# Altium footprint library QFP_Rect_65P_Side_M.PcbLib: 6 footprints
Each footprint in its own frame and in the unit in brackets; x right, y up, seen from the top. Pads: shape width x height; smd on the part's side, far side on the other; paste and mask are expansions set on the pad; w line width, h text height; cw(c..) or ccw(c..) is an arc to the next point about the centre after c.
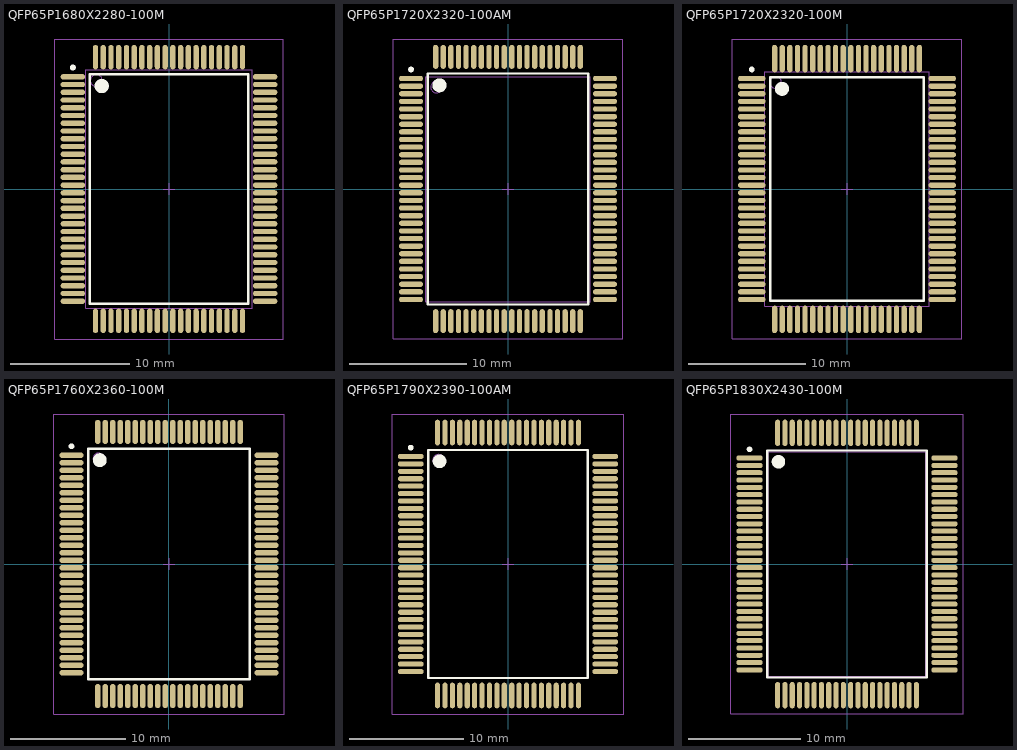
[diagram p0: the footprints below, top view; thin cyan lines are the x and y axes]

## QFP65P1680X2280-100M [mm] "100-Pin Quad Flat Pack Rectangular 0.65 mm Pitch"
height 3.05
pads (100):
  oval 2.05x0.45 smd: 1(-8.075,9.425) 2(-8.075,8.775) 3(-8.075,8.125) 4(-8.075,7.475) 5(-8.075,6.825) 6(-8.075,6.175) 7(-8.075,5.525) 8(-8.075,4.875) 9(-8.075,4.225) 10(-8.075,3.575) 11(-8.075,2.925) 12(-8.075,2.275) 13(-8.075,1.625) 14(-8.075,0.975) 15(-8.075,0.325) 16(-8.075,-0.325) 17(-8.075,-0.975) 18(-8.075,-1.625) 19(-8.075,-2.275) 20(-8.075,-2.925) 21(-8.075,-3.575) 22(-8.075,-4.225) 23(-8.075,-4.875) 24(-8.075,-5.525) 25(-8.075,-6.175) 26(-8.075,-6.825) 27(-8.075,-7.475) 28(-8.075,-8.125) 29(-8.075,-8.775) 30(-8.075,-9.425) 51(8.075,-9.425) 52(8.075,-8.775) 53(8.075,-8.125) 54(8.075,-7.475) 55(8.075,-6.825) 56(8.075,-6.175) 57(8.075,-5.525) 58(8.075,-4.875) 59(8.075,-4.225) 60(8.075,-3.575) 61(8.075,-2.925) 62(8.075,-2.275) 63(8.075,-1.625) 64(8.075,-0.975) 65(8.075,-0.325) 66(8.075,0.325) 67(8.075,0.975) 68(8.075,1.625) 69(8.075,2.275) 70(8.075,2.925) 71(8.075,3.575) 72(8.075,4.225) 73(8.075,4.875) 74(8.075,5.525) 75(8.075,6.175) 76(8.075,6.825) 77(8.075,7.475) 78(8.075,8.125) 79(8.075,8.775) 80(8.075,9.425)
  oval 0.45x2.05 smd: 31(-6.175,-11.075) 32(-5.525,-11.075) 33(-4.875,-11.075) 34(-4.225,-11.075) 35(-3.575,-11.075) 36(-2.925,-11.075) 37(-2.275,-11.075) 38(-1.625,-11.075) 39(-0.975,-11.075) 40(-0.325,-11.075) 41(0.325,-11.075) 42(0.975,-11.075) 43(1.625,-11.075) 44(2.275,-11.075) 45(2.925,-11.075) 46(3.575,-11.075) 47(4.225,-11.075) 48(4.875,-11.075) 49(5.525,-11.075) 50(6.175,-11.075) 81(6.175,11.075) 82(5.525,11.075) 83(4.875,11.075) 84(4.225,11.075) 85(3.575,11.075) 86(2.925,11.075) 87(2.275,11.075) 88(1.625,11.075) 89(0.975,11.075) 90(0.325,11.075) 91(-0.325,11.075) 92(-0.975,11.075) 93(-1.625,11.075) 94(-2.275,11.075) 95(-2.925,11.075) 96(-3.575,11.075) 97(-4.225,11.075) 98(-4.875,11.075) 99(-5.525,11.075) 100(-6.175,11.075)
Top Overlay:
  circle w0.25: c-8.075,10.2 r0.125
  circle w0.6: c-5.65,8.65 r0.3
  lines w0.2: -6.65,-9.65 -6.65,9.65 6.65,9.65 6.65,-9.65 -6.65,-9.65
Mechanical 13:
  circle w0.1: c-6.1,9.1 r0.5
  lines w0.1: -7,-10 -7,10 7,10 7,-10 -7,-10
Mechanical 15:
  lines w0.1: -0.5,0 0.5,0 ; 0,-0.5 0,0.5 ; -9.6,-12.6 -9.6,12.6 9.6,12.6 9.6,-12.6 -9.6,-12.6
3D body: height 3.05, standoff 0, extent -7,-10 7,10

## QFP65P1720X2320-100AM [mm] "QFP, 100-Leads, Body 20x14mm, Pitch 0.65mm, IPC Low Density"
height 3.22
pads (100):
  oval 2.05x0.45 smd: 1(-8.275,9.425) 2(-8.275,8.775) 3(-8.275,8.125) 4(-8.275,7.475) 5(-8.275,6.825) 6(-8.275,6.175) 7(-8.275,5.525) 8(-8.275,4.875) 9(-8.275,4.225) 10(-8.275,3.575) 11(-8.275,2.925) 12(-8.275,2.275) 13(-8.275,1.625) 14(-8.275,0.975) 15(-8.275,0.325) 16(-8.275,-0.325) 17(-8.275,-0.975) 18(-8.275,-1.625) 19(-8.275,-2.275) 20(-8.275,-2.925) 21(-8.275,-3.575) 22(-8.275,-4.225) 23(-8.275,-4.875) 24(-8.275,-5.525) 25(-8.275,-6.175) 26(-8.275,-6.825) 27(-8.275,-7.475) 28(-8.275,-8.125) 29(-8.275,-8.775) 30(-8.275,-9.425) 51(8.275,-9.425) 52(8.275,-8.775) 53(8.275,-8.125) 54(8.275,-7.475) 55(8.275,-6.825) 56(8.275,-6.175) 57(8.275,-5.525) 58(8.275,-4.875) 59(8.275,-4.225) 60(8.275,-3.575) 61(8.275,-2.925) 62(8.275,-2.275) 63(8.275,-1.625) 64(8.275,-0.975) 65(8.275,-0.325) 66(8.275,0.325) 67(8.275,0.975) 68(8.275,1.625) 69(8.275,2.275) 70(8.275,2.925) 71(8.275,3.575) 72(8.275,4.225) 73(8.275,4.875) 74(8.275,5.525) 75(8.275,6.175) 76(8.275,6.825) 77(8.275,7.475) 78(8.275,8.125) 79(8.275,8.775) 80(8.275,9.425)
  oval 0.45x2.05 smd: 31(-6.175,-11.275) 32(-5.525,-11.275) 33(-4.875,-11.275) 34(-4.225,-11.275) 35(-3.575,-11.275) 36(-2.925,-11.275) 37(-2.275,-11.275) 38(-1.625,-11.275) 39(-0.975,-11.275) 40(-0.325,-11.275) 41(0.325,-11.275) 42(0.975,-11.275) 43(1.625,-11.275) 44(2.275,-11.275) 45(2.925,-11.275) 46(3.575,-11.275) 47(4.225,-11.275) 48(4.875,-11.275) 49(5.525,-11.275) 50(6.175,-11.275) 81(6.175,11.275) 82(5.525,11.275) 83(4.875,11.275) 84(4.225,11.275) 85(3.575,11.275) 86(2.925,11.275) 87(2.275,11.275) 88(1.625,11.275) 89(0.975,11.275) 90(0.325,11.275) 91(-0.325,11.275) 92(-0.975,11.275) 93(-1.625,11.275) 94(-2.275,11.275) 95(-2.925,11.275) 96(-3.575,11.275) 97(-4.225,11.275) 98(-4.875,11.275) 99(-5.525,11.275) 100(-6.175,11.275)
Top Overlay:
  circle w0.25: c-8.275,10.2 r0.125
  circle w0.6: c-5.85,8.85 r0.3
  lines w0.2: -6.85,-9.85 -6.85,9.85 6.85,9.85 6.85,-9.85 -6.85,-9.85
Mechanical 13:
  circle w0.1: c-6.1,8.7 r0.5
  lines w0.1: -7,-9.6 -7,9.6 7,9.6 7,-9.6 -7,-9.6
Mechanical 15:
  lines w0.1: -0.5,0 0.5,0 ; 0,-0.5 0,0.5 ; -9.8,-12.8 -9.8,12.8 9.8,12.8 9.8,-12.8 -9.8,-12.8
3D body: height 3.22, standoff 0, extent -7,-9.6 7,9.6

## QFP65P1720X2320-100M [mm] "QFP, 100-Leads, Body 20x14mm, Pitch 0.65mm, IPC Low Density"
height 3.4
pads (100):
  oval 2.35x0.45 smd: 1(-8.125,9.425) 2(-8.125,8.775) 3(-8.125,8.125) 4(-8.125,7.475) 5(-8.125,6.825) 6(-8.125,6.175) 7(-8.125,5.525) 8(-8.125,4.875) 9(-8.125,4.225) 10(-8.125,3.575) 11(-8.125,2.925) 12(-8.125,2.275) 13(-8.125,1.625) 14(-8.125,0.975) 15(-8.125,0.325) 16(-8.125,-0.325) 17(-8.125,-0.975) 18(-8.125,-1.625) 19(-8.125,-2.275) 20(-8.125,-2.925) 21(-8.125,-3.575) 22(-8.125,-4.225) 23(-8.125,-4.875) 24(-8.125,-5.525) 25(-8.125,-6.175) 26(-8.125,-6.825) 27(-8.125,-7.475) 28(-8.125,-8.125) 29(-8.125,-8.775) 30(-8.125,-9.425) 51(8.125,-9.425) 52(8.125,-8.775) 53(8.125,-8.125) 54(8.125,-7.475) 55(8.125,-6.825) 56(8.125,-6.175) 57(8.125,-5.525) 58(8.125,-4.875) 59(8.125,-4.225) 60(8.125,-3.575) 61(8.125,-2.925) 62(8.125,-2.275) 63(8.125,-1.625) 64(8.125,-0.975) 65(8.125,-0.325) 66(8.125,0.325) 67(8.125,0.975) 68(8.125,1.625) 69(8.125,2.275) 70(8.125,2.925) 71(8.125,3.575) 72(8.125,4.225) 73(8.125,4.875) 74(8.125,5.525) 75(8.125,6.175) 76(8.125,6.825) 77(8.125,7.475) 78(8.125,8.125) 79(8.125,8.775) 80(8.125,9.425)
  oval 0.45x2.35 smd: 31(-6.175,-11.125) 32(-5.525,-11.125) 33(-4.875,-11.125) 34(-4.225,-11.125) 35(-3.575,-11.125) 36(-2.925,-11.125) 37(-2.275,-11.125) 38(-1.625,-11.125) 39(-0.975,-11.125) 40(-0.325,-11.125) 41(0.325,-11.125) 42(0.975,-11.125) 43(1.625,-11.125) 44(2.275,-11.125) 45(2.925,-11.125) 46(3.575,-11.125) 47(4.225,-11.125) 48(4.875,-11.125) 49(5.525,-11.125) 50(6.175,-11.125) 81(6.175,11.125) 82(5.525,11.125) 83(4.875,11.125) 84(4.225,11.125) 85(3.575,11.125) 86(2.925,11.125) 87(2.275,11.125) 88(1.625,11.125) 89(0.975,11.125) 90(0.325,11.125) 91(-0.325,11.125) 92(-0.975,11.125) 93(-1.625,11.125) 94(-2.275,11.125) 95(-2.925,11.125) 96(-3.575,11.125) 97(-4.225,11.125) 98(-4.875,11.125) 99(-5.525,11.125) 100(-6.175,11.125)
Top Overlay:
  circle w0.6: c-5.55,8.55 r0.3
  circle w0.25: c-8.125,10.2 r0.125
  lines w0.2: -6.55,-9.55 6.55,-9.55 6.55,9.55 -6.55,9.55 -6.55,-9.55
Mechanical 13:
  circle w0.1: c-6.1,9.1 r0.5
  lines w0.1: -7,-10 7,-10 7,10 -7,10 -7,-10
Mechanical 15:
  lines w0.1: -0.5,0 0.5,0 ; 0,-0.5 0,0.5 ; -9.8,-12.8 9.8,-12.8 9.8,12.8 -9.8,12.8 -9.8,-12.8
3D body: height 3.4, standoff 0, extent -7,-10 7,10

## QFP65P1760X2360-100M [mm] "QFP, 100-Leads, Body 20x14mm, Pitch 0.65mm, IPC Low Density"
height 3.27
pads (100):
  oval 2.1x0.45 smd: 1(-8.45,9.425) 2(-8.45,8.775) 3(-8.45,8.125) 4(-8.45,7.475) 5(-8.45,6.825) 6(-8.45,6.175) 7(-8.45,5.525) 8(-8.45,4.875) 9(-8.45,4.225) 10(-8.45,3.575) 11(-8.45,2.925) 12(-8.45,2.275) 13(-8.45,1.625) 14(-8.45,0.975) 15(-8.45,0.325) 16(-8.45,-0.325) 17(-8.45,-0.975) 18(-8.45,-1.625) 19(-8.45,-2.275) 20(-8.45,-2.925) 21(-8.45,-3.575) 22(-8.45,-4.225) 23(-8.45,-4.875) 24(-8.45,-5.525) 25(-8.45,-6.175) 26(-8.45,-6.825) 27(-8.45,-7.475) 28(-8.45,-8.125) 29(-8.45,-8.775) 30(-8.45,-9.425) 51(8.45,-9.425) 52(8.45,-8.775) 53(8.45,-8.125) 54(8.45,-7.475) 55(8.45,-6.825) 56(8.45,-6.175) 57(8.45,-5.525) 58(8.45,-4.875) 59(8.45,-4.225) 60(8.45,-3.575) 61(8.45,-2.925) 62(8.45,-2.275) 63(8.45,-1.625) 64(8.45,-0.975) 65(8.45,-0.325) 66(8.45,0.325) 67(8.45,0.975) 68(8.45,1.625) 69(8.45,2.275) 70(8.45,2.925) 71(8.45,3.575) 72(8.45,4.225) 73(8.45,4.875) 74(8.45,5.525) 75(8.45,6.175) 76(8.45,6.825) 77(8.45,7.475) 78(8.45,8.125) 79(8.45,8.775) 80(8.45,9.425)
  oval 0.45x2.1 smd: 31(-6.175,-11.45) 32(-5.525,-11.45) 33(-4.875,-11.45) 34(-4.225,-11.45) 35(-3.575,-11.45) 36(-2.925,-11.45) 37(-2.275,-11.45) 38(-1.625,-11.45) 39(-0.975,-11.45) 40(-0.325,-11.45) 41(0.325,-11.45) 42(0.975,-11.45) 43(1.625,-11.45) 44(2.275,-11.45) 45(2.925,-11.45) 46(3.575,-11.45) 47(4.225,-11.45) 48(4.875,-11.45) 49(5.525,-11.45) 50(6.175,-11.45) 81(6.175,11.45) 82(5.525,11.45) 83(4.875,11.45) 84(4.225,11.45) 85(3.575,11.45) 86(2.925,11.45) 87(2.275,11.45) 88(1.625,11.45) 89(0.975,11.45) 90(0.325,11.45) 91(-0.325,11.45) 92(-0.975,11.45) 93(-1.625,11.45) 94(-2.275,11.45) 95(-2.925,11.45) 96(-3.575,11.45) 97(-4.225,11.45) 98(-4.875,11.45) 99(-5.525,11.45) 100(-6.175,11.45)
Top Overlay:
  circle w0.6: c-6,9 r0.3
  circle w0.25: c-8.45,10.2 r0.125
  lines w0.2: -7,-10 7,-10 7,10 -7,10 -7,-10
Mechanical 13:
  circle w0.1: c-6.1,9.1 r0.5
  lines w0.1: -7,-10 7,-10 7,10 -7,10 -7,-10
Mechanical 15:
  lines w0.1: -0.5,0 0.5,0 ; 0,-0.5 0,0.5 ; -10,-13 10,-13 10,13 -10,13 -10,-13
3D body: height 3.27, standoff 0, extent -7,-10 7,10

## QFP65P1790X2390-100AM [mm] "QFP, 100-Leads, Body 20x14mm, Pitch 0.65mm, IPC Low Density"
height 3.3
pads (100):
  oval 2.25x0.45 smd: 1(-8.525,9.425) 2(-8.525,8.775) 3(-8.525,8.125) 4(-8.525,7.475) 5(-8.525,6.825) 6(-8.525,6.175) 7(-8.525,5.525) 8(-8.525,4.875) 9(-8.525,4.225) 10(-8.525,3.575) 11(-8.525,2.925) 12(-8.525,2.275) 13(-8.525,1.625) 14(-8.525,0.975) 15(-8.525,0.325) 16(-8.525,-0.325) 17(-8.525,-0.975) 18(-8.525,-1.625) 19(-8.525,-2.275) 20(-8.525,-2.925) 21(-8.525,-3.575) 22(-8.525,-4.225) 23(-8.525,-4.875) 24(-8.525,-5.525) 25(-8.525,-6.175) 26(-8.525,-6.825) 27(-8.525,-7.475) 28(-8.525,-8.125) 29(-8.525,-8.775) 30(-8.525,-9.425) 51(8.525,-9.425) 52(8.525,-8.775) 53(8.525,-8.125) 54(8.525,-7.475) 55(8.525,-6.825) 56(8.525,-6.175) 57(8.525,-5.525) 58(8.525,-4.875) 59(8.525,-4.225) 60(8.525,-3.575) 61(8.525,-2.925) 62(8.525,-2.275) 63(8.525,-1.625) 64(8.525,-0.975) 65(8.525,-0.325) 66(8.525,0.325) 67(8.525,0.975) 68(8.525,1.625) 69(8.525,2.275) 70(8.525,2.925) 71(8.525,3.575) 72(8.525,4.225) 73(8.525,4.875) 74(8.525,5.525) 75(8.525,6.175) 76(8.525,6.825) 77(8.525,7.475) 78(8.525,8.125) 79(8.525,8.775) 80(8.525,9.425)
  oval 0.45x2.25 smd: 31(-6.175,-11.525) 32(-5.525,-11.525) 33(-4.875,-11.525) 34(-4.225,-11.525) 35(-3.575,-11.525) 36(-2.925,-11.525) 37(-2.275,-11.525) 38(-1.625,-11.525) 39(-0.975,-11.525) 40(-0.325,-11.525) 41(0.325,-11.525) 42(0.975,-11.525) 43(1.625,-11.525) 44(2.275,-11.525) 45(2.925,-11.525) 46(3.575,-11.525) 47(4.225,-11.525) 48(4.875,-11.525) 49(5.525,-11.525) 50(6.175,-11.525) 81(6.175,11.525) 82(5.525,11.525) 83(4.875,11.525) 84(4.225,11.525) 85(3.575,11.525) 86(2.925,11.525) 87(2.275,11.525) 88(1.625,11.525) 89(0.975,11.525) 90(0.325,11.525) 91(-0.325,11.525) 92(-0.975,11.525) 93(-1.625,11.525) 94(-2.275,11.525) 95(-2.925,11.525) 96(-3.575,11.525) 97(-4.225,11.525) 98(-4.875,11.525) 99(-5.525,11.525) 100(-6.175,11.525)
Top Overlay:
  circle w0.25: c-8.525,10.2 r0.125
  circle w0.6: c-6,9 r0.3
  lines w0.2: -7,-10 -7,10 7,10 7,-10 -7,-10
Mechanical 13:
  circle w0.1: c-6.1,9.1 r0.5
  lines w0.1: -7,-10 -7,10 7,10 7,-10 -7,-10
Mechanical 15:
  lines w0.1: -0.5,0 0.5,0 ; 0,-0.5 0,0.5 ; -10.15,-13.15 -10.15,13.15 10.15,13.15 10.15,-13.15 -10.15,-13.15
3D body: height 3.3, standoff 0, extent -7,-10 7,10

## QFP65P1830X2430-100M [mm] "QFP, 100-Leads, Body 20x14mm, Pitch 0.65mm, IPC Low Density"
height 2.15
pads (100):
  oval 2.35x0.45 smd: 1(-8.675,9.425) 2(-8.675,8.775) 3(-8.675,8.125) 4(-8.675,7.475) 5(-8.675,6.825) 6(-8.675,6.175) 7(-8.675,5.525) 8(-8.675,4.875) 9(-8.675,4.225) 10(-8.675,3.575) 11(-8.675,2.925) 12(-8.675,2.275) 13(-8.675,1.625) 14(-8.675,0.975) 15(-8.675,0.325) 16(-8.675,-0.325) 17(-8.675,-0.975) 18(-8.675,-1.625) 19(-8.675,-2.275) 20(-8.675,-2.925) 21(-8.675,-3.575) 22(-8.675,-4.225) 23(-8.675,-4.875) 24(-8.675,-5.525) 25(-8.675,-6.175) 26(-8.675,-6.825) 27(-8.675,-7.475) 28(-8.675,-8.125) 29(-8.675,-8.775) 30(-8.675,-9.425) 51(8.675,-9.425) 52(8.675,-8.775) 53(8.675,-8.125) 54(8.675,-7.475) 55(8.675,-6.825) 56(8.675,-6.175) 57(8.675,-5.525) 58(8.675,-4.875) 59(8.675,-4.225) 60(8.675,-3.575) 61(8.675,-2.925) 62(8.675,-2.275) 63(8.675,-1.625) 64(8.675,-0.975) 65(8.675,-0.325) 66(8.675,0.325) 67(8.675,0.975) 68(8.675,1.625) 69(8.675,2.275) 70(8.675,2.925) 71(8.675,3.575) 72(8.675,4.225) 73(8.675,4.875) 74(8.675,5.525) 75(8.675,6.175) 76(8.675,6.825) 77(8.675,7.475) 78(8.675,8.125) 79(8.675,8.775) 80(8.675,9.425)
  oval 0.45x2.35 smd: 31(-6.175,-11.675) 32(-5.525,-11.675) 33(-4.875,-11.675) 34(-4.225,-11.675) 35(-3.575,-11.675) 36(-2.925,-11.675) 37(-2.275,-11.675) 38(-1.625,-11.675) 39(-0.975,-11.675) 40(-0.325,-11.675) 41(0.325,-11.675) 42(0.975,-11.675) 43(1.625,-11.675) 44(2.275,-11.675) 45(2.925,-11.675) 46(3.575,-11.675) 47(4.225,-11.675) 48(4.875,-11.675) 49(5.525,-11.675) 50(6.175,-11.675) 81(6.175,11.675) 82(5.525,11.675) 83(4.875,11.675) 84(4.225,11.675) 85(3.575,11.675) 86(2.925,11.675) 87(2.275,11.675) 88(1.625,11.675) 89(0.975,11.675) 90(0.325,11.675) 91(-0.325,11.675) 92(-0.975,11.675) 93(-1.625,11.675) 94(-2.275,11.675) 95(-2.925,11.675) 96(-3.575,11.675) 97(-4.225,11.675) 98(-4.875,11.675) 99(-5.525,11.675) 100(-6.175,11.675)
Top Overlay:
  circle w0.25: c-8.675,10.2 r0.125
  circle w0.6: c-6.1,9.1 r0.3
  lines w0.2: -7.1,-10.1 -7.1,10.1 7.1,10.1 7.1,-10.1 -7.1,-10.1
Mechanical 13:
  circle w0.1: c-6.1,9.1 r0.5
  lines w0.1: -7,-10 -7,10 7,10 7,-10 -7,-10
Mechanical 15:
  lines w0.1: -0.5,0 0.5,0 ; 0,-0.5 0,0.5 ; -10.35,-13.35 -10.35,13.35 10.35,13.35 10.35,-13.35 -10.35,-13.35
3D body: height 2.15, standoff 0, extent -7,-10 7,10